# EAGLE library part JEEPORT (library RFM12B)
PIN HEADER
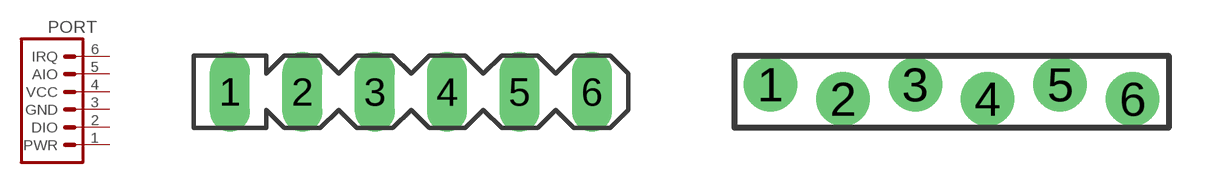
[diagram p1: symbol with the pads of PORT6PIN; footprints PORT6PIN, 1X06_FEMALE_LOCK.010]

Designator prefix PORT

## JEEPORT-LONGPADS  [PORT6PIN]
1  PWR  pwr
2  DIO
3  GND  pwr
4  VCC  pwr
5  AIO
6  IRQ

## JEEPORT-FEMALE  [1X06_FEMALE_LOCK.010]
Pads as for PORT6PIN

## Footprint PORT6PIN (pad centres in mm)
PIN HEADER
drill 0.9 long: 1 -6.35,0; 2 -3.81,0; 3 -1.27,0; 4 1.27,0; 5 3.81,0; 6 6.35,0

## Footprint 1X06_FEMALE_LOCK.010 (pad centres in mm)
drill 1.016 pad 1.88: 1 0,0.254; 2 2.54,-0.254; 3 5.08,0.254; 4 7.62,-0.254; 5 10.16,0.254; 6 12.7,-0.254